# Altium footprint library PcbLib1.PcbLib: 1 footprints
Each footprint in its own frame and in the unit in brackets; x right, y up, seen from the top. Pads: shape width x height; smd on the part's side, far side on the other; paste and mask are expansions set on the pad; w line width, h text height; cw(c..) or ccw(c..) is an arc to the next point about the centre after c.
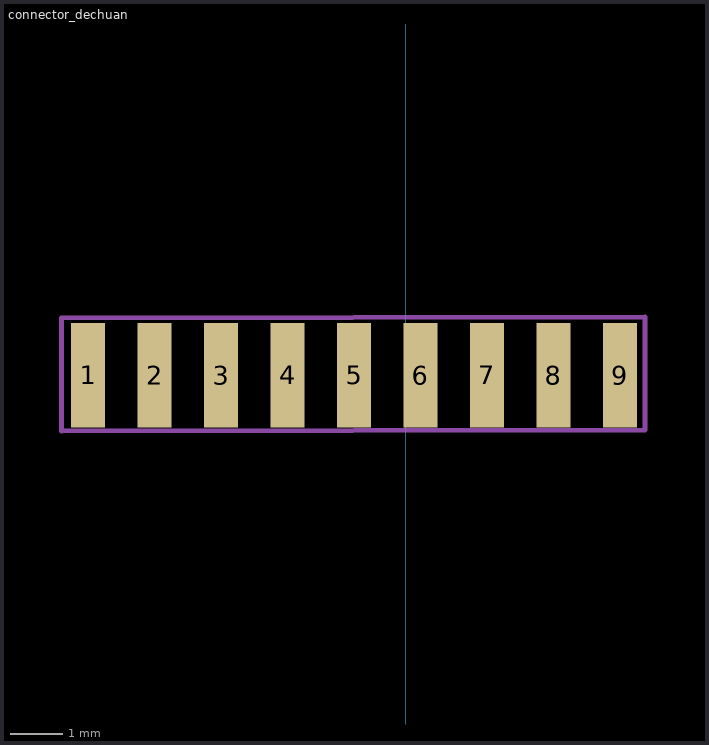
[diagram p0: the footprint, top view; thin cyan lines are the x and y axes]

## connector_dechuan [mm]
pads (9):
  rect 0.65x2 smd: 1(-6.071,-6.807) 2(-4.801,-6.807) 3(-3.531,-6.807) 4(-2.261,-6.807) 5(-0.991,-6.807) 6(0.279,-6.807) 7(1.549,-6.807) 8(2.819,-6.807) 9(4.089,-6.807)
Mechanical 15:
  lines w0.1: -6.579,-7.875 4.572,-7.853 4.572,-5.694 -6.579,-5.716 -6.579,-7.875
3D body: height 0.7, standoff 0, extent -6.13,-7.747 4.064,-5.842